# Altium schematic symbol library ACS712ELCTR-20A-T.Schlib: 1 symbol
Pins are listed as number, name and electrical type; pins without a type are passive.

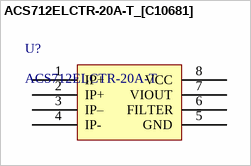
[diagram p0: symbol ACS712ELCTR-20A-T_[C10681]]

## ACS712ELCTR-20A-T_[C10681]
designator U?, comment ACS712ELCTR-20A-T
传感器
footprint SOIC-8_150mil
pins: 1 IP+, 2 IP+, 3 IP–, 4 IP-, 5 GND, 6 FILTER, 7 VIOUT, 8 VCC